# Altium schematic symbol library jlcpcb_2025_04_ferrites_extended_0402.schlib: 536 symbols (part 9 of 10)
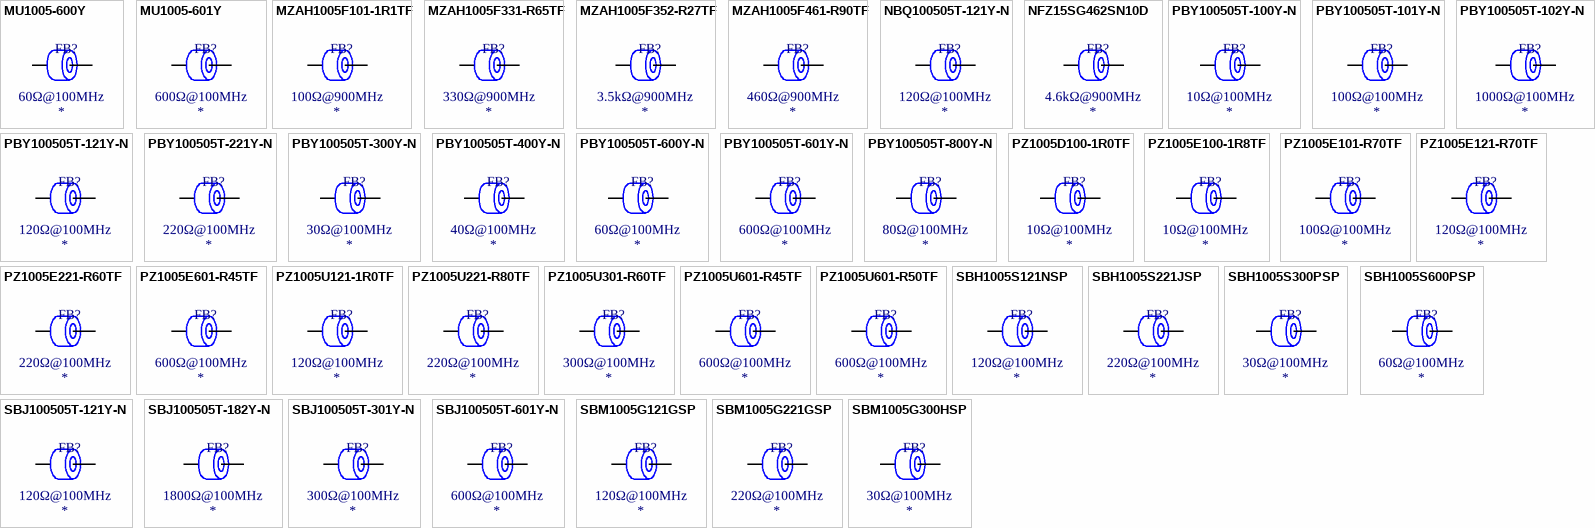
[diagram p21: symbols MU1005-600Y to SBM1005G300HSP]

## PBY100505T-101Y-N
designator FB?  Impedance @ Frequency: 100Ω@100MHz
Ferrite, 100Ω@100MHz, ±25%, 0.09Ω, 1200mA, SMD 0402; Manufacturer: Chilisin Elec; Manufacturer Part Number: PBY100505T-101Y-N; Package Size: 0402; JLCPCB Basic Part: No; JLCPCB Part Number: C142087; Supplier 1: LCSC; Category: Ferrite Beads; Supplier Part Number 1: C142087; Tolerance: ±25%; Rated Current: 1200mA; DC Resistance: 0.09Ω; RoHS: Yes; ComponentLink1Description: Datasheet; ComponentLink1URL: https://wmsc.lcsc.com/wmsc/upload/file/pdf/v2/lcsc/2304140030_Chilisin-Elec-PBY100505T-101Y-N_C142087.pdf; ComponentLink2Description: JLCPCB Part URL; ComponentLink2URL: https://jlcpcb.com/partdetail/C142087; ComponentLink3Description: LCSC Part URL; ComponentLink3URL: https://lcsc.com/product-detail/Ferrite-Beads_Chilisin-Elec-Chilisin-Elec-PBY100505T-101Y-N_C142087.html
footprint FB-0402 (0402 (1005M) Ferrite)
pins: 1, 2

## PBY100505T-102Y-N
designator FB?  Impedance @ Frequency: 1000Ω@100MHz
Ferrite, 1000Ω@100MHz, ±25%, 0.49Ω, 500mA, SMD 0402; Manufacturer: Chilisin Elec; Manufacturer Part Number: PBY100505T-102Y-N; Package Size: 0402; JLCPCB Basic Part: No; JLCPCB Part Number: C142086; Supplier 1: LCSC; Category: Ferrite Beads; Supplier Part Number 1: C142086; Tolerance: ±25%; Rated Current: 500mA; DC Resistance: 0.49Ω; RoHS: Yes; ComponentLink1Description: Datasheet; ComponentLink1URL: https://wmsc.lcsc.com/wmsc/upload/file/pdf/v2/lcsc/2304140030_Chilisin-Elec-PBY100505T-102Y-N_C142086.pdf; ComponentLink2Description: JLCPCB Part URL; ComponentLink2URL: https://jlcpcb.com/partdetail/C142086; ComponentLink3Description: LCSC Part URL; ComponentLink3URL: https://lcsc.com/product-detail/Ferrite-Beads_Chilisin-Elec-Chilisin-Elec-PBY100505T-102Y-N_C142086.html
footprint FB-0402 (0402 (1005M) Ferrite)
pins: 1, 2

## PBY100505T-121Y-N
designator FB?  Impedance @ Frequency: 120Ω@100MHz
Ferrite, 120Ω@100MHz, ±25%, 0.09Ω, 1400mA, SMD 0402; Manufacturer: Chilisin Elec; Manufacturer Part Number: PBY100505T-121Y-N; Package Size: 0402; JLCPCB Basic Part: No; JLCPCB Part Number: C108297; Supplier 1: LCSC; Category: Ferrite Beads; Supplier Part Number 1: C108297; Tolerance: ±25%; Rated Current: 1400mA; DC Resistance: 0.09Ω; RoHS: Yes; ComponentLink1Description: Datasheet; ComponentLink1URL: https://wmsc.lcsc.com/wmsc/upload/file/pdf/v2/lcsc/2304140030_Chilisin-Elec-PBY100505T-121Y-N_C108297.pdf; ComponentLink2Description: JLCPCB Part URL; ComponentLink2URL: https://jlcpcb.com/partdetail/C108297; ComponentLink3Description: LCSC Part URL; ComponentLink3URL: https://lcsc.com/product-detail/Ferrite-Beads_Chilisin-Elec-Chilisin-Elec-PBY100505T-121Y-N_C108297.html
footprint FB-0402 (0402 (1005M) Ferrite)
pins: 1, 2

## PBY100505T-221Y-N
designator FB?  Impedance @ Frequency: 220Ω@100MHz
Ferrite, 220Ω@100MHz, ±25%, 0.18Ω, 1100mA, SMD 0402; Manufacturer: Chilisin Elec; Manufacturer Part Number: PBY100505T-221Y-N; Package Size: 0402; JLCPCB Basic Part: No; JLCPCB Part Number: C142085; Supplier 1: LCSC; Category: Ferrite Beads; Supplier Part Number 1: C142085; Tolerance: ±25%; Rated Current: 1100mA; DC Resistance: 0.18Ω; RoHS: Yes; ComponentLink1Description: Datasheet; ComponentLink1URL: https://wmsc.lcsc.com/wmsc/upload/file/pdf/v2/lcsc/2304140030_Chilisin-Elec-PBY100505T-221Y-N_C142085.pdf; ComponentLink2Description: JLCPCB Part URL; ComponentLink2URL: https://jlcpcb.com/partdetail/C142085; ComponentLink3Description: LCSC Part URL; ComponentLink3URL: https://lcsc.com/product-detail/Ferrite-Beads_Chilisin-Elec-Chilisin-Elec-PBY100505T-221Y-N_C142085.html
footprint FB-0402 (0402 (1005M) Ferrite)
pins: 1, 2

## PBY100505T-300Y-N
designator FB?  Impedance @ Frequency: 30Ω@100MHz
Ferrite, 30Ω@100MHz, ±25%, 0.05Ω, 1700mA, SMD 0402; Manufacturer: Chilisin Elec; Manufacturer Part Number: PBY100505T-300Y-N; Package Size: 0402; JLCPCB Basic Part: No; JLCPCB Part Number: C142084; Supplier 1: LCSC; Category: Ferrite Beads; Supplier Part Number 1: C142084; Tolerance: ±25%; Rated Current: 1700mA; DC Resistance: 0.05Ω; RoHS: Yes; ComponentLink1Description: Datasheet; ComponentLink1URL: https://wmsc.lcsc.com/wmsc/upload/file/pdf/v2/lcsc/2304140030_Chilisin-Elec-PBY100505T-300Y-N_C142084.pdf; ComponentLink2Description: JLCPCB Part URL; ComponentLink2URL: https://jlcpcb.com/partdetail/C142084; ComponentLink3Description: LCSC Part URL; ComponentLink3URL: https://lcsc.com/product-detail/Ferrite-Beads_Chilisin-Elec-Chilisin-Elec-PBY100505T-300Y-N_C142084.html
footprint FB-0402 (0402 (1005M) Ferrite)
pins: 1, 2

## PBY100505T-400Y-N
designator FB?  Impedance @ Frequency: 40Ω@100MHz
Ferrite, 40Ω@100MHz, ±25%, 0.075Ω, 1500mA, SMD 0402; Manufacturer: Chilisin Elec; Manufacturer Part Number: PBY100505T-400Y-N; Package Size: 0402; JLCPCB Basic Part: No; JLCPCB Part Number: C365831; Supplier 1: LCSC; Category: Ferrite Beads; Supplier Part Number 1: C365831; Tolerance: ±25%; Rated Current: 1500mA; DC Resistance: 0.075Ω; RoHS: Yes; ComponentLink1Description: Datasheet; ComponentLink1URL: https://wmsc.lcsc.com/wmsc/upload/file/pdf/v2/lcsc/2304140030_Chilisin-Elec-PBY100505T-400Y-N_C365831.pdf; ComponentLink2Description: JLCPCB Part URL; ComponentLink2URL: https://jlcpcb.com/partdetail/C365831; ComponentLink3Description: LCSC Part URL; ComponentLink3URL: https://lcsc.com/product-detail/Ferrite-Beads_Chilisin-Elec-Chilisin-Elec-PBY100505T-400Y-N_C365831.html
footprint FB-0402 (0402 (1005M) Ferrite)
pins: 1, 2

## PBY100505T-600Y-N
designator FB?  Impedance @ Frequency: 60Ω@100MHz
Ferrite, 60Ω@100MHz, ±25%, 0.075Ω, 1500mA, SMD 0402; Manufacturer: Chilisin Elec; Manufacturer Part Number: PBY100505T-600Y-N; Package Size: 0402; JLCPCB Basic Part: No; JLCPCB Part Number: C142083; Supplier 1: LCSC; Category: Ferrite Beads; Supplier Part Number 1: C142083; Tolerance: ±25%; Rated Current: 1500mA; DC Resistance: 0.075Ω; RoHS: Yes; ComponentLink1Description: Datasheet; ComponentLink1URL: https://wmsc.lcsc.com/wmsc/upload/file/pdf/v2/lcsc/2304140030_Chilisin-Elec-PBY100505T-600Y-N_C142083.pdf; ComponentLink2Description: JLCPCB Part URL; ComponentLink2URL: https://jlcpcb.com/partdetail/C142083; ComponentLink3Description: LCSC Part URL; ComponentLink3URL: https://lcsc.com/product-detail/Ferrite-Beads_Chilisin-Elec-Chilisin-Elec-PBY100505T-600Y-N_C142083.html
footprint FB-0402 (0402 (1005M) Ferrite)
pins: 1, 2

## PBY100505T-601Y-N
designator FB?  Impedance @ Frequency: 600Ω@100MHz
Ferrite, 600Ω@100MHz, ±25%, 0.34Ω, 700mA, SMD 0402; Manufacturer: Chilisin Elec; Manufacturer Part Number: PBY100505T-601Y-N; Package Size: 0402; JLCPCB Basic Part: No; JLCPCB Part Number: C142082; Supplier 1: LCSC; Category: Ferrite Beads; Supplier Part Number 1: C142082; Tolerance: ±25%; Rated Current: 700mA; DC Resistance: 0.34Ω; RoHS: Yes; ComponentLink1Description: Datasheet; ComponentLink1URL: https://wmsc.lcsc.com/wmsc/upload/file/pdf/v2/lcsc/2304140030_Chilisin-Elec-PBY100505T-601Y-N_C142082.pdf; ComponentLink2Description: JLCPCB Part URL; ComponentLink2URL: https://jlcpcb.com/partdetail/C142082; ComponentLink3Description: LCSC Part URL; ComponentLink3URL: https://lcsc.com/product-detail/Ferrite-Beads_Chilisin-Elec-Chilisin-Elec-PBY100505T-601Y-N_C142082.html
footprint FB-0402 (0402 (1005M) Ferrite)
pins: 1, 2

## PBY100505T-800Y-N
designator FB?  Impedance @ Frequency: 80Ω@100MHz
Ferrite, 80Ω@100MHz, ±25%, 0.09Ω, 1200mA, SMD 0402; Manufacturer: Chilisin Elec; Manufacturer Part Number: PBY100505T-800Y-N; Package Size: 0402; JLCPCB Basic Part: No; JLCPCB Part Number: C365825; Supplier 1: LCSC; Category: Ferrite Beads; Supplier Part Number 1: C365825; Tolerance: ±25%; Rated Current: 1200mA; DC Resistance: 0.09Ω; RoHS: Yes; ComponentLink1Description: Datasheet; ComponentLink1URL: https://wmsc.lcsc.com/wmsc/upload/file/pdf/v2/lcsc/2304140030_Chilisin-Elec-PBY100505T-800Y-N_C365825.pdf; ComponentLink2Description: JLCPCB Part URL; ComponentLink2URL: https://jlcpcb.com/partdetail/C365825; ComponentLink3Description: LCSC Part URL; ComponentLink3URL: https://lcsc.com/product-detail/Ferrite-Beads_Chilisin-Elec-Chilisin-Elec-PBY100505T-800Y-N_C365825.html
footprint FB-0402 (0402 (1005M) Ferrite)
pins: 1, 2

## PZ1005D100-1R0TF
designator FB?  Impedance @ Frequency: 10Ω@100MHz
Ferrite, 10Ω@100MHz, 0.05Ω, 1000mA, SMD 0402; Manufacturer: Sunlord; Manufacturer Part Number: PZ1005D100-1R0TF; Package Size: 0402; JLCPCB Basic Part: No; JLCPCB Part Number: C96719; Supplier 1: LCSC; Category: Ferrite Beads; Supplier Part Number 1: C96719; Rated Current: 1000mA; DC Resistance: 0.05Ω; RoHS: Yes; ComponentLink1Description: Datasheet; ComponentLink1URL: https://wmsc.lcsc.com/wmsc/upload/file/pdf/v2/lcsc/2310301641_Sunlord-PZ1005D100-1R0TF_C96719.pdf; ComponentLink2Description: JLCPCB Part URL; ComponentLink2URL: https://jlcpcb.com/partdetail/C96719; ComponentLink3Description: LCSC Part URL; ComponentLink3URL: https://lcsc.com/product-detail/Ferrite-Beads_Sunlord-Sunlord-PZ1005D100-1R0TF_C96719.html
pins: 1, 2

## PZ1005E100-1R8TF
designator FB?  Impedance @ Frequency: 10Ω@100MHz
Ferrite, 10Ω@100MHz, 0.02Ω, 1800mA, SMD 0402; Manufacturer: Sunlord; Manufacturer Part Number: PZ1005E100-1R8TF; Package Size: 0402; JLCPCB Basic Part: No; JLCPCB Part Number: C370054; Supplier 1: LCSC; Category: Ferrite Beads; Supplier Part Number 1: C370054; Rated Current: 1800mA; DC Resistance: 0.02Ω; RoHS: Yes; ComponentLink1Description: Datasheet; ComponentLink1URL: https://wmsc.lcsc.com/wmsc/upload/file/pdf/v2/lcsc/2310301641_Sunlord-PZ1005E100-1R8TF_C370054.pdf; ComponentLink2Description: JLCPCB Part URL; ComponentLink2URL: https://jlcpcb.com/partdetail/C370054; ComponentLink3Description: LCSC Part URL; ComponentLink3URL: https://lcsc.com/product-detail/Ferrite-Beads_Sunlord-Sunlord-PZ1005E100-1R8TF_C370054.html
pins: 1, 2

## PZ1005E101-R70TF
designator FB?  Impedance @ Frequency: 100Ω@100MHz
Ferrite, 100Ω@100MHz, 0.7A, SMD 0402; Manufacturer: Sunlord; Manufacturer Part Number: PZ1005E101-R70TF; Package Size: 0402; JLCPCB Basic Part: No; JLCPCB Part Number: C2988088; Supplier 1: LCSC; Category: Ferrite Beads; Supplier Part Number 1: C2988088; Rated Current: 0.7A; RoHS: Yes; ComponentLink1Description: Datasheet; ComponentLink1URL: https://wmsc.lcsc.com/wmsc/upload/file/pdf/v2/lcsc/2312261450_Sunlord-PZ1005E101-R70TF_C2988088.pdf; ComponentLink2Description: JLCPCB Part URL; ComponentLink2URL: https://jlcpcb.com/partdetail/C2988088; ComponentLink3Description: LCSC Part URL; ComponentLink3URL: https://lcsc.com/product-detail/Ferrite-Beads_Sunlord-Sunlord-PZ1005E101-R70TF_C2988088.html
pins: 1, 2

## PZ1005E121-R70TF
designator FB?  Impedance @ Frequency: 120Ω@100MHz
Ferrite, 120Ω@100MHz, ±25%, 0.13Ω, 700mA, SMD 0402; Manufacturer: Sunlord; Manufacturer Part Number: PZ1005E121-R70TF; Package Size: 0402; JLCPCB Basic Part: No; JLCPCB Part Number: C96720; Supplier 1: LCSC; Category: Ferrite Beads; Supplier Part Number 1: C96720; Tolerance: ±25%; Rated Current: 700mA; DC Resistance: 0.13Ω; RoHS: Yes; ComponentLink1Description: Datasheet; ComponentLink1URL: https://wmsc.lcsc.com/wmsc/upload/file/pdf/v2/lcsc/2310301641_Sunlord-PZ1005E121-R70TF_C96720.pdf; ComponentLink2Description: JLCPCB Part URL; ComponentLink2URL: https://jlcpcb.com/partdetail/C96720; ComponentLink3Description: LCSC Part URL; ComponentLink3URL: https://lcsc.com/product-detail/Ferrite-Beads_Sunlord-Sunlord-PZ1005E121-R70TF_C96720.html
footprint FB-0402 (0402 (1005M) Ferrite)
pins: 1, 2

## PZ1005E221-R60TF
designator FB?  Impedance @ Frequency: 220Ω@100MHz
Ferrite, 220Ω@100MHz, ±25%, 0.18Ω, 600mA, SMD 0402; Manufacturer: Sunlord; Manufacturer Part Number: PZ1005E221-R60TF; Package Size: 0402; JLCPCB Basic Part: No; JLCPCB Part Number: C96721; Supplier 1: LCSC; Category: Ferrite Beads; Supplier Part Number 1: C96721; Tolerance: ±25%; Rated Current: 600mA; DC Resistance: 0.18Ω; RoHS: Yes; ComponentLink1Description: Datasheet; ComponentLink1URL: https://wmsc.lcsc.com/wmsc/upload/file/pdf/v2/lcsc/2310301641_Sunlord-PZ1005E221-R60TF_C96721.pdf; ComponentLink2Description: JLCPCB Part URL; ComponentLink2URL: https://jlcpcb.com/partdetail/C96721; ComponentLink3Description: LCSC Part URL; ComponentLink3URL: https://lcsc.com/product-detail/Ferrite-Beads_Sunlord-Sunlord-PZ1005E221-R60TF_C96721.html
footprint FB-0402 (0402 (1005M) Ferrite)
pins: 1, 2

## PZ1005E601-R45TF
designator FB?  Impedance @ Frequency: 600Ω@100MHz
Ferrite, 600Ω@100MHz, ±25%, 0.34Ω, 450mA, SMD 0402; Manufacturer: Sunlord; Manufacturer Part Number: PZ1005E601-R45TF; Package Size: 0402; JLCPCB Basic Part: No; JLCPCB Part Number: C96722; Supplier 1: LCSC; Category: Ferrite Beads; Supplier Part Number 1: C96722; Tolerance: ±25%; Rated Current: 450mA; DC Resistance: 0.34Ω; RoHS: Yes; ComponentLink1Description: Datasheet; ComponentLink1URL: https://wmsc.lcsc.com/wmsc/upload/file/pdf/v2/lcsc/2310301641_Sunlord-PZ1005E601-R45TF_C96722.pdf; ComponentLink2Description: JLCPCB Part URL; ComponentLink2URL: https://jlcpcb.com/partdetail/C96722; ComponentLink3Description: LCSC Part URL; ComponentLink3URL: https://lcsc.com/product-detail/Ferrite-Beads_Sunlord-Sunlord-PZ1005E601-R45TF_C96722.html
footprint FB-0402 (0402 (1005M) Ferrite)
pins: 1, 2

## PZ1005U121-1R0TF
designator FB?  Impedance @ Frequency: 120Ω@100MHz
Ferrite, 120Ω@100MHz, ±25%, 0.12Ω, 1000mA, SMD 0402; Manufacturer: Sunlord; Manufacturer Part Number: PZ1005U121-1R0TF; Package Size: 0402; JLCPCB Basic Part: No; JLCPCB Part Number: C96723; Supplier 1: LCSC; Category: Ferrite Beads; Supplier Part Number 1: C96723; Tolerance: ±25%; Rated Current: 1000mA; DC Resistance: 0.12Ω; RoHS: Yes; ComponentLink1Description: Datasheet; ComponentLink1URL: https://wmsc.lcsc.com/wmsc/upload/file/pdf/v2/lcsc/2310301641_Sunlord-PZ1005U121-1R0TF_C96723.pdf; ComponentLink2Description: JLCPCB Part URL; ComponentLink2URL: https://jlcpcb.com/partdetail/C96723; ComponentLink3Description: LCSC Part URL; ComponentLink3URL: https://lcsc.com/product-detail/Ferrite-Beads_Sunlord-Sunlord-PZ1005U121-1R0TF_C96723.html
footprint FB-0402 (0402 (1005M) Ferrite)
pins: 1, 2

## PZ1005U221-R80TF
designator FB?  Impedance @ Frequency: 220Ω@100MHz
Ferrite, 220Ω@100MHz, ±25%, 0.18Ω, 800mA, SMD 0402; Manufacturer: Sunlord; Manufacturer Part Number: PZ1005U221-R80TF; Package Size: 0402; JLCPCB Basic Part: No; JLCPCB Part Number: C96724; Supplier 1: LCSC; Category: Ferrite Beads; Supplier Part Number 1: C96724; Tolerance: ±25%; Rated Current: 800mA; DC Resistance: 0.18Ω; RoHS: Yes; ComponentLink1Description: Datasheet; ComponentLink1URL: https://wmsc.lcsc.com/wmsc/upload/file/pdf/v2/lcsc/2310301641_Sunlord-PZ1005U221-R80TF_C96724.pdf; ComponentLink2Description: JLCPCB Part URL; ComponentLink2URL: https://jlcpcb.com/partdetail/C96724; ComponentLink3Description: LCSC Part URL; ComponentLink3URL: https://lcsc.com/product-detail/Ferrite-Beads_Sunlord-Sunlord-PZ1005U221-R80TF_C96724.html
footprint FB-0402 (0402 (1005M) Ferrite)
pins: 1, 2

## PZ1005U301-R60TF
designator FB?  Impedance @ Frequency: 300Ω@100MHz
Ferrite, 300Ω@100MHz, ±25%, 0.6A, SMD 0402; Manufacturer: Sunlord; Manufacturer Part Number: PZ1005U301-R60TF; Package Size: 0402; JLCPCB Basic Part: No; JLCPCB Part Number: C316422; Supplier 1: LCSC; Category: Ferrite Beads; Supplier Part Number 1: C316422; Tolerance: ±25%; Rated Current: 0.6A; RoHS: Yes; ComponentLink1Description: Datasheet; ComponentLink1URL: https://wmsc.lcsc.com/wmsc/upload/file/pdf/v2/lcsc/2310301641_Sunlord-PZ1005U301-R60TF_C316422.pdf; ComponentLink2Description: JLCPCB Part URL; ComponentLink2URL: https://jlcpcb.com/partdetail/C316422; ComponentLink3Description: LCSC Part URL; ComponentLink3URL: https://lcsc.com/product-detail/Ferrite-Beads_Sunlord-Sunlord-PZ1005U301-R60TF_C316422.html
pins: 1, 2

## PZ1005U601-R45TF
designator FB?  Impedance @ Frequency: 600Ω@100MHz
Ferrite, 600Ω@100MHz, ±25%, 0.34Ω, 450mA, SMD 0402; Manufacturer: Sunlord; Manufacturer Part Number: PZ1005U601-R45TF; Package Size: 0402; JLCPCB Basic Part: No; JLCPCB Part Number: C96725; Supplier 1: LCSC; Category: Ferrite Beads; Supplier Part Number 1: C96725; Tolerance: ±25%; Rated Current: 450mA; DC Resistance: 0.34Ω; RoHS: Yes; ComponentLink1Description: Datasheet; ComponentLink1URL: https://wmsc.lcsc.com/wmsc/upload/file/pdf/v2/lcsc/2310301641_Sunlord-PZ1005U601-R45TF_C96725.pdf; ComponentLink2Description: JLCPCB Part URL; ComponentLink2URL: https://jlcpcb.com/partdetail/C96725; ComponentLink3Description: LCSC Part URL; ComponentLink3URL: https://lcsc.com/product-detail/Ferrite-Beads_Sunlord-Sunlord-PZ1005U601-R45TF_C96725.html
footprint FB-0402 (0402 (1005M) Ferrite)
pins: 1, 2

## PZ1005U601-R50TF
designator FB?  Impedance @ Frequency: 600Ω@100MHz
Ferrite, 600Ω@100MHz, ±25%, 0.5A, SMD 0402; Manufacturer: Sunlord; Manufacturer Part Number: PZ1005U601-R50TF; Package Size: 0402; JLCPCB Basic Part: No; JLCPCB Part Number: C279849; Supplier 1: LCSC; Category: Ferrite Beads; Supplier Part Number 1: C279849; Tolerance: ±25%; Rated Current: 0.5A; RoHS: Yes; ComponentLink1Description: Datasheet; ComponentLink1URL: https://wmsc.lcsc.com/wmsc/upload/file/pdf/v2/lcsc/2310301641_Sunlord-PZ1005U601-R50TF_C279849.pdf; ComponentLink2Description: JLCPCB Part URL; ComponentLink2URL: https://jlcpcb.com/partdetail/C279849; ComponentLink3Description: LCSC Part URL; ComponentLink3URL: https://lcsc.com/product-detail/Ferrite-Beads_Sunlord-Sunlord-PZ1005U601-R50TF_C279849.html
pins: 1, 2

## SBH1005S121NSP
designator FB?  Impedance @ Frequency: 120Ω@100MHz
Ferrite, 120Ω@100MHz, ±25%, 95mΩ, 2A, SMD 0402; Manufacturer: Sunltech Tech; Manufacturer Part Number: SBH1005S121NSP; Package Size: 0402; JLCPCB Basic Part: No; JLCPCB Part Number: C216140; Supplier 1: LCSC; Category: Ferrite Beads; Supplier Part Number 1: C216140; Tolerance: ±25%; Rated Current: 2A; DC Resistance: 95mΩ; RoHS: Yes; ComponentLink1Description: Datasheet; ComponentLink1URL: https://wmsc.lcsc.com/wmsc/upload/file/pdf/v2/lcsc/2304140030_Sunltech-Tech-SBH1005S121NSP_C216140.pdf; ComponentLink2Description: JLCPCB Part URL; ComponentLink2URL: https://jlcpcb.com/partdetail/C216140; ComponentLink3Description: LCSC Part URL; ComponentLink3URL: https://lcsc.com/product-detail/Ferrite-Beads_Sunltech-Tech-Sunltech-Tech-SBH1005S121NSP_C216140.html
footprint FB-0402 (0402 (1005M) Ferrite)
pins: 1, 2

## SBH1005S221JSP
designator FB?  Impedance @ Frequency: 220Ω@100MHz
Ferrite, 220Ω@100MHz, ±25%, 700mΩ, 800mA, SMD 0402; Manufacturer: Sunltech Tech; Manufacturer Part Number: SBH1005S221JSP; Package Size: 0402; JLCPCB Basic Part: No; JLCPCB Part Number: C216141; Supplier 1: LCSC; Category: Ferrite Beads; Supplier Part Number 1: C216141; Tolerance: ±25%; Rated Current: 800mA; DC Resistance: 700mΩ; RoHS: Yes; ComponentLink1Description: Datasheet; ComponentLink1URL: https://wmsc.lcsc.com/wmsc/upload/file/pdf/v2/lcsc/1809041633_Sunltech-Tech-SBH1005S221JSP_C216141.pdf; ComponentLink2Description: JLCPCB Part URL; ComponentLink2URL: https://jlcpcb.com/partdetail/C216141; ComponentLink3Description: LCSC Part URL; ComponentLink3URL: https://lcsc.com/product-detail/Ferrite-Beads_Sunltech-Tech-Sunltech-Tech-SBH1005S221JSP_C216141.html
footprint FB-0402 (0402 (1005M) Ferrite)
pins: 1, 2

## SBH1005S300PSP
designator FB?  Impedance @ Frequency: 30Ω@100MHz
Ferrite, 30Ω@100MHz, ±25%, 60mΩ, 2.5A, SMD 0402; Manufacturer: Sunltech Tech; Manufacturer Part Number: SBH1005S300PSP; Package Size: 0402; JLCPCB Basic Part: No; JLCPCB Part Number: C216138; Supplier 1: LCSC; Category: Ferrite Beads; Supplier Part Number 1: C216138; Tolerance: ±25%; Rated Current: 2.5A; DC Resistance: 60mΩ; RoHS: Yes; ComponentLink1Description: Datasheet; ComponentLink1URL: https://wmsc.lcsc.com/wmsc/upload/file/pdf/v2/lcsc/2304140030_Sunltech-Tech-SBH1005S300PSP_C216138.pdf; ComponentLink2Description: JLCPCB Part URL; ComponentLink2URL: https://jlcpcb.com/partdetail/C216138; ComponentLink3Description: LCSC Part URL; ComponentLink3URL: https://lcsc.com/product-detail/Ferrite-Beads_Sunltech-Tech-Sunltech-Tech-SBH1005S300PSP_C216138.html
footprint FB-0402 (0402 (1005M) Ferrite)
pins: 1, 2

## SBH1005S600PSP
designator FB?  Impedance @ Frequency: 60Ω@100MHz
Ferrite, 60Ω@100MHz, ±25%, 70mΩ, 2.5A, SMD 0402; Manufacturer: Sunltech Tech; Manufacturer Part Number: SBH1005S600PSP; Package Size: 0402; JLCPCB Basic Part: No; JLCPCB Part Number: C216139; Supplier 1: LCSC; Category: Ferrite Beads; Supplier Part Number 1: C216139; Tolerance: ±25%; Rated Current: 2.5A; DC Resistance: 70mΩ; RoHS: Yes; ComponentLink1Description: Datasheet; ComponentLink1URL: https://wmsc.lcsc.com/wmsc/upload/file/pdf/v2/lcsc/2304140030_Sunltech-Tech-SBH1005S600PSP_C216139.pdf; ComponentLink2Description: JLCPCB Part URL; ComponentLink2URL: https://jlcpcb.com/partdetail/C216139; ComponentLink3Description: LCSC Part URL; ComponentLink3URL: https://lcsc.com/product-detail/Ferrite-Beads_Sunltech-Tech-Sunltech-Tech-SBH1005S600PSP_C216139.html
footprint FB-0402 (0402 (1005M) Ferrite)
pins: 1, 2

## SBJ100505T-121Y-N
designator FB?  Impedance @ Frequency: 120Ω@100MHz
Ferrite, 120Ω@100MHz, 250mΩ, 500mA, SMD 0402; Manufacturer: Chilisin Elec; Manufacturer Part Number: SBJ100505T-121Y-N; Package Size: 0402; JLCPCB Basic Part: No; JLCPCB Part Number: C3033272; Supplier 1: LCSC; Category: Ferrite Beads; Supplier Part Number 1: C3033272; Rated Current: 500mA; DC Resistance: 250mΩ; RoHS: Yes; ComponentLink1Description: Datasheet; ComponentLink1URL: https://wmsc.lcsc.com/wmsc/upload/file/pdf/v2/lcsc/2209140930_Chilisin-Elec-SBJ100505T-121Y-N_C3033272.pdf; ComponentLink2Description: JLCPCB Part URL; ComponentLink2URL: https://jlcpcb.com/partdetail/C3033272; ComponentLink3Description: LCSC Part URL; ComponentLink3URL: https://lcsc.com/product-detail/Ferrite-Beads_Chilisin-Elec-Chilisin-Elec-SBJ100505T-121Y-N_C3033272.html
pins: 1, 2

## SBJ100505T-182Y-N
designator FB?  Impedance @ Frequency: 1800Ω@100MHz
Ferrite, 1800Ω@100MHz, ±25%, 1.4Ω, 100mA, SMD 0402; Manufacturer: Chilisin Elec; Manufacturer Part Number: SBJ100505T-182Y-N; Package Size: 0402; JLCPCB Basic Part: No; JLCPCB Part Number: C280681; Supplier 1: LCSC; Category: Ferrite Beads; Supplier Part Number 1: C280681; Tolerance: ±25%; Rated Current: 100mA; DC Resistance: 1.4Ω; RoHS: Yes; ComponentLink1Description: Datasheet; ComponentLink1URL: https://wmsc.lcsc.com/wmsc/upload/file/pdf/v2/lcsc/1912111437_Chilisin-Elec-SBJ100505T-182Y-N_C280681.pdf; ComponentLink2Description: JLCPCB Part URL; ComponentLink2URL: https://jlcpcb.com/partdetail/C280681; ComponentLink3Description: LCSC Part URL; ComponentLink3URL: https://lcsc.com/product-detail/Ferrite-Beads_Chilisin-Elec-Chilisin-Elec-SBJ100505T-182Y-N_C280681.html
footprint FB-0402 (0402 (1005M) Ferrite)
pins: 1, 2

## SBJ100505T-301Y-N
designator FB?  Impedance @ Frequency: 300Ω@100MHz
Ferrite, 300Ω@100MHz, ±25%, 0.5Ω, 300mA, SMD 0402; Manufacturer: Chilisin Elec; Manufacturer Part Number: SBJ100505T-301Y-N; Package Size: 0402; JLCPCB Basic Part: No; JLCPCB Part Number: C285657; Supplier 1: LCSC; Category: Ferrite Beads; Supplier Part Number 1: C285657; Tolerance: ±25%; Rated Current: 300mA; DC Resistance: 0.5Ω; RoHS: Yes; ComponentLink1Description: Datasheet; ComponentLink1URL: https://wmsc.lcsc.com/wmsc/upload/file/pdf/v2/lcsc/2304140030_Chilisin-Elec-SBJ100505T-301Y-N_C285657.pdf; ComponentLink2Description: JLCPCB Part URL; ComponentLink2URL: https://jlcpcb.com/partdetail/C285657; ComponentLink3Description: LCSC Part URL; ComponentLink3URL: https://lcsc.com/product-detail/Ferrite-Beads_Chilisin-Elec-Chilisin-Elec-SBJ100505T-301Y-N_C285657.html
footprint FB-0402 (0402 (1005M) Ferrite)
pins: 1, 2

## SBJ100505T-601Y-N
designator FB?  Impedance @ Frequency: 600Ω@100MHz
Ferrite, 600Ω@100MHz, ±25%, 0.6Ω, 300mA, SMD 0402; Manufacturer: Chilisin Elec; Manufacturer Part Number: SBJ100505T-601Y-N; Package Size: 0402; JLCPCB Basic Part: No; JLCPCB Part Number: C142038; Supplier 1: LCSC; Category: Ferrite Beads; Supplier Part Number 1: C142038; Tolerance: ±25%; Rated Current: 300mA; DC Resistance: 0.6Ω; RoHS: Yes; ComponentLink1Description: Datasheet; ComponentLink1URL: https://wmsc.lcsc.com/wmsc/upload/file/pdf/v2/lcsc/2304140030_Chilisin-Elec-SBJ100505T-601Y-N_C142038.pdf; ComponentLink2Description: JLCPCB Part URL; ComponentLink2URL: https://jlcpcb.com/partdetail/C142038; ComponentLink3Description: LCSC Part URL; ComponentLink3URL: https://lcsc.com/product-detail/Ferrite-Beads_Chilisin-Elec-Chilisin-Elec-SBJ100505T-601Y-N_C142038.html
footprint FB-0402 (0402 (1005M) Ferrite)
pins: 1, 2

## SBM1005G121GSP
designator FB?  Impedance @ Frequency: 120Ω@100MHz
Ferrite, 120Ω@100MHz, ±25%, 800mΩ, 200mA, SMD 0402; Manufacturer: Sunltech Tech; Manufacturer Part Number: SBM1005G121GSP; Package Size: 0402; JLCPCB Basic Part: No; JLCPCB Part Number: C216125; Supplier 1: LCSC; Category: Ferrite Beads; Supplier Part Number 1: C216125; Tolerance: ±25%; Rated Current: 200mA; DC Resistance: 800mΩ; RoHS: Yes; ComponentLink1Description: Datasheet; ComponentLink2Description: JLCPCB Part URL; ComponentLink2URL: https://jlcpcb.com/partdetail/C216125; ComponentLink3Description: LCSC Part URL; ComponentLink3URL: https://lcsc.com/product-detail/Ferrite-Beads_Sunltech-Tech-Sunltech-Tech-SBM1005G121GSP_C216125.html
footprint FB-0402 (0402 (1005M) Ferrite)
pins: 1, 2

## SBM1005G221GSP
designator FB?  Impedance @ Frequency: 220Ω@100MHz
Ferrite, 220Ω@100MHz, ±25%, 700mΩ, 500mA, SMD 0402; Manufacturer: Sunltech Tech; Manufacturer Part Number: SBM1005G221GSP; Package Size: 0402; JLCPCB Basic Part: No; JLCPCB Part Number: C216126; Supplier 1: LCSC; Category: Ferrite Beads; Supplier Part Number 1: C216126; Tolerance: ±25%; Rated Current: 500mA; DC Resistance: 700mΩ; RoHS: Yes; ComponentLink1Description: Datasheet; ComponentLink1URL: https://wmsc.lcsc.com/wmsc/upload/file/pdf/v2/lcsc/2304140030_Sunltech-Tech-SBM1005G221GSP_C216126.pdf; ComponentLink2Description: JLCPCB Part URL; ComponentLink2URL: https://jlcpcb.com/partdetail/C216126; ComponentLink3Description: LCSC Part URL; ComponentLink3URL: https://lcsc.com/product-detail/Ferrite-Beads_Sunltech-Tech-Sunltech-Tech-SBM1005G221GSP_C216126.html
footprint FB-0402 (0402 (1005M) Ferrite)
pins: 1, 2

## SBM1005G300HSP
designator FB?  Impedance @ Frequency: 30Ω@100MHz
Ferrite, 30Ω@100MHz, ±25%, 150mΩ, 600mA, SMD 0402; Manufacturer: Sunltech Tech; Manufacturer Part Number: SBM1005G300HSP; Package Size: 0402; JLCPCB Basic Part: No; JLCPCB Part Number: C216123; Supplier 1: LCSC; Category: Ferrite Beads; Supplier Part Number 1: C216123; Tolerance: ±25%; Rated Current: 600mA; DC Resistance: 150mΩ; RoHS: Yes; ComponentLink1Description: Datasheet; ComponentLink1URL: https://wmsc.lcsc.com/wmsc/upload/file/pdf/v2/lcsc/2304140030_Sunltech-Tech-SBM1005G300HSP_C216123.pdf; ComponentLink2Description: JLCPCB Part URL; ComponentLink2URL: https://jlcpcb.com/partdetail/C216123; ComponentLink3Description: LCSC Part URL; ComponentLink3URL: https://lcsc.com/product-detail/Ferrite-Beads_Sunltech-Tech-Sunltech-Tech-SBM1005G300HSP_C216123.html
footprint FB-0402 (0402 (1005M) Ferrite)
pins: 1, 2

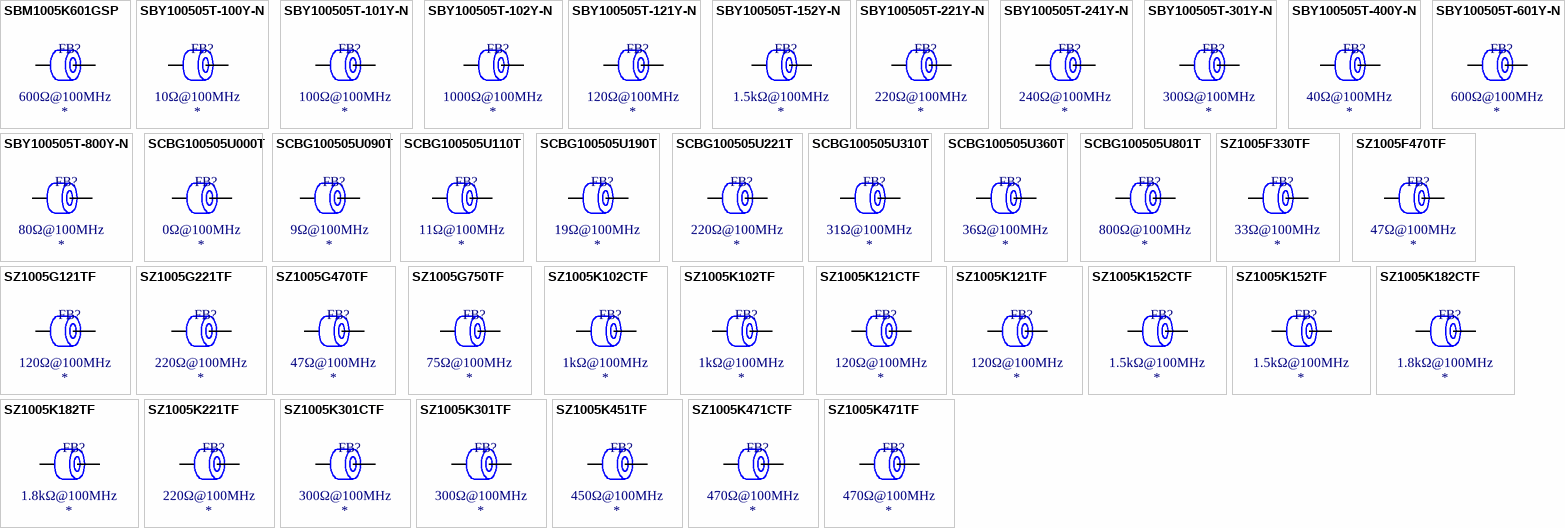
[diagram p12: symbols SBM1005K601GSP to SZ1005K471TF]

## SBM1005K601GSP
designator FB?  Impedance @ Frequency: 600Ω@100MHz
Ferrite, 600Ω@100MHz, ±25%, 1Ω, 500mA, SMD 0402; Manufacturer: Sunltech Tech; Manufacturer Part Number: SBM1005K601GSP; Package Size: 0402; JLCPCB Basic Part: No; JLCPCB Part Number: C216127; Supplier 1: LCSC; Category: Ferrite Beads; Supplier Part Number 1: C216127; Tolerance: ±25%; Rated Current: 500mA; DC Resistance: 1Ω; RoHS: Yes; ComponentLink1Description: Datasheet; ComponentLink1URL: https://wmsc.lcsc.com/wmsc/upload/file/pdf/v2/lcsc/2304140030_Sunltech-Tech-SBM1005K601GSP_C216127.pdf; ComponentLink2Description: JLCPCB Part URL; ComponentLink2URL: https://jlcpcb.com/partdetail/C216127; ComponentLink3Description: LCSC Part URL; ComponentLink3URL: https://lcsc.com/product-detail/Ferrite-Beads_Sunltech-Tech-Sunltech-Tech-SBM1005K601GSP_C216127.html
footprint FB-0402 (0402 (1005M) Ferrite)
pins: 1, 2

## SBY100505T-100Y-N
designator FB?  Impedance @ Frequency: 10Ω@100MHz
Ferrite, 10Ω@100MHz, ±25%, 0.05Ω, 500mA, SMD 0402; Manufacturer: Chilisin Elec; Manufacturer Part Number: SBY100505T-100Y-N; Package Size: 0402; JLCPCB Basic Part: No; JLCPCB Part Number: C285645; Supplier 1: LCSC; Category: Ferrite Beads; Supplier Part Number 1: C285645; Tolerance: ±25%; Rated Current: 500mA; DC Resistance: 0.05Ω; RoHS: Yes; ComponentLink1Description: Datasheet; ComponentLink1URL: https://wmsc.lcsc.com/wmsc/upload/file/pdf/v2/lcsc/2304140030_Chilisin-Elec-SBY100505T-100Y-N_C285645.pdf; ComponentLink2Description: JLCPCB Part URL; ComponentLink2URL: https://jlcpcb.com/partdetail/C285645; ComponentLink3Description: LCSC Part URL; ComponentLink3URL: https://lcsc.com/product-detail/Ferrite-Beads_Chilisin-Elec-Chilisin-Elec-SBY100505T-100Y-N_C285645.html
footprint FB-0402 (0402 (1005M) Ferrite)
pins: 1, 2

## SBY100505T-101Y-N
designator FB?  Impedance @ Frequency: 100Ω@100MHz
Ferrite, 100Ω@100MHz, ±25%, 0.25Ω, 500mA, SMD 0402; Manufacturer: Chilisin Elec; Manufacturer Part Number: SBY100505T-101Y-N; Package Size: 0402; JLCPCB Basic Part: No; JLCPCB Part Number: C280601; Supplier 1: LCSC; Category: Ferrite Beads; Supplier Part Number 1: C280601; Tolerance: ±25%; Rated Current: 500mA; DC Resistance: 0.25Ω; RoHS: Yes; ComponentLink1Description: Datasheet; ComponentLink1URL: https://wmsc.lcsc.com/wmsc/upload/file/pdf/v2/lcsc/2304140030_Chilisin-Elec-SBY100505T-101Y-N_C280601.pdf; ComponentLink2Description: JLCPCB Part URL; ComponentLink2URL: https://jlcpcb.com/partdetail/C280601; ComponentLink3Description: LCSC Part URL; ComponentLink3URL: https://lcsc.com/product-detail/Ferrite-Beads_Chilisin-Elec-Chilisin-Elec-SBY100505T-101Y-N_C280601.html
footprint FB-0402 (0402 (1005M) Ferrite)
pins: 1, 2

## SBY100505T-102Y-N
designator FB?  Impedance @ Frequency: 1000Ω@100MHz
Ferrite, 1000Ω@100MHz, ±25%, 0.65Ω, 300mA, SMD 0402; Manufacturer: Chilisin Elec; Manufacturer Part Number: SBY100505T-102Y-N; Package Size: 0402; JLCPCB Basic Part: No; JLCPCB Part Number: C280602; Supplier 1: LCSC; Category: Ferrite Beads; Supplier Part Number 1: C280602; Tolerance: ±25%; Rated Current: 300mA; DC Resistance: 0.65Ω; RoHS: Yes; ComponentLink1Description: Datasheet; ComponentLink1URL: https://wmsc.lcsc.com/wmsc/upload/file/pdf/v2/lcsc/1811141623_Chilisin-Elec-SBY100505T-102Y-N_C280602.pdf; ComponentLink2Description: JLCPCB Part URL; ComponentLink2URL: https://jlcpcb.com/partdetail/C280602; ComponentLink3Description: LCSC Part URL; ComponentLink3URL: https://lcsc.com/product-detail/Ferrite-Beads_Chilisin-Elec-Chilisin-Elec-SBY100505T-102Y-N_C280602.html
footprint FB-0402 (0402 (1005M) Ferrite)
pins: 1, 2

## SBY100505T-121Y-N
designator FB?  Impedance @ Frequency: 120Ω@100MHz
Ferrite, 120Ω@100MHz, ±25%, 0.25Ω, 500mA, SMD 0402; Manufacturer: Chilisin Elec; Manufacturer Part Number: SBY100505T-121Y-N; Package Size: 0402; JLCPCB Basic Part: No; JLCPCB Part Number: C142034; Supplier 1: LCSC; Category: Ferrite Beads; Supplier Part Number 1: C142034; Tolerance: ±25%; Rated Current: 500mA; DC Resistance: 0.25Ω; RoHS: Yes; ComponentLink1Description: Datasheet; ComponentLink1URL: https://wmsc.lcsc.com/wmsc/upload/file/pdf/v2/lcsc/2304140030_Chilisin-Elec-SBY100505T-121Y-N_C142034.pdf; ComponentLink2Description: JLCPCB Part URL; ComponentLink2URL: https://jlcpcb.com/partdetail/C142034; ComponentLink3Description: LCSC Part URL; ComponentLink3URL: https://lcsc.com/product-detail/Ferrite-Beads_Chilisin-Elec-Chilisin-Elec-SBY100505T-121Y-N_C142034.html
footprint FB-0402 (0402 (1005M) Ferrite)
pins: 1, 2

## SBY100505T-152Y-N
designator FB?  Impedance @ Frequency: 1.5kΩ@100MHz
Ferrite, 1.5kΩ@100MHz, ±25%, SMD 0402; Manufacturer: Chilisin Elec; Manufacturer Part Number: SBY100505T-152Y-N; Package Size: 0402; JLCPCB Basic Part: No; JLCPCB Part Number: C142033; Supplier 1: LCSC; Category: Ferrite Beads; Supplier Part Number 1: C142033; Tolerance: ±25%; RoHS: Yes; ComponentLink1Description: Datasheet; ComponentLink1URL: https://wmsc.lcsc.com/wmsc/upload/file/pdf/v2/lcsc/2304140030_Chilisin-Elec-SBY100505T-152Y-N_C142033.pdf; ComponentLink2Description: JLCPCB Part URL; ComponentLink2URL: https://jlcpcb.com/partdetail/C142033; ComponentLink3Description: LCSC Part URL; ComponentLink3URL: https://lcsc.com/product-detail/Ferrite-Beads_Chilisin-Elec-Chilisin-Elec-SBY100505T-152Y-N_C142033.html
pins: 1, 2

## SBY100505T-221Y-N
designator FB?  Impedance @ Frequency: 220Ω@100MHz
Ferrite, 220Ω@100MHz, ±25%, 0.29Ω, 450mA, SMD 0402; Manufacturer: Chilisin Elec; Manufacturer Part Number: SBY100505T-221Y-N; Package Size: 0402; JLCPCB Basic Part: No; JLCPCB Part Number: C108307; Supplier 1: LCSC; Category: Ferrite Beads; Supplier Part Number 1: C108307; Tolerance: ±25%; Rated Current: 450mA; DC Resistance: 0.29Ω; RoHS: Yes; ComponentLink1Description: Datasheet; ComponentLink1URL: https://wmsc.lcsc.com/wmsc/upload/file/pdf/v2/lcsc/2304140030_Chilisin-Elec-SBY100505T-221Y-N_C108307.pdf; ComponentLink2Description: JLCPCB Part URL; ComponentLink2URL: https://jlcpcb.com/partdetail/C108307; ComponentLink3Description: LCSC Part URL; ComponentLink3URL: https://lcsc.com/product-detail/Ferrite-Beads_Chilisin-Elec-Chilisin-Elec-SBY100505T-221Y-N_C108307.html
footprint FB-0402 (0402 (1005M) Ferrite)
pins: 1, 2

## SBY100505T-241Y-N
designator FB?  Impedance @ Frequency: 240Ω@100MHz
Ferrite, 240Ω@100MHz, ±25%, 0.4Ω, 400mA, SMD 0402; Manufacturer: Chilisin Elec; Manufacturer Part Number: SBY100505T-241Y-N; Package Size: 0402; JLCPCB Basic Part: No; JLCPCB Part Number: C329646; Supplier 1: LCSC; Category: Ferrite Beads; Supplier Part Number 1: C329646; Tolerance: ±25%; Rated Current: 400mA; DC Resistance: 0.4Ω; RoHS: Yes; ComponentLink1Description: Datasheet; ComponentLink1URL: https://wmsc.lcsc.com/wmsc/upload/file/pdf/v2/lcsc/1912111437_Chilisin-Elec-SBY100505T-241Y-N_C329646.pdf; ComponentLink2Description: JLCPCB Part URL; ComponentLink2URL: https://jlcpcb.com/partdetail/C329646; ComponentLink3Description: LCSC Part URL; ComponentLink3URL: https://lcsc.com/product-detail/Ferrite-Beads_Chilisin-Elec-Chilisin-Elec-SBY100505T-241Y-N_C329646.html
footprint FB-0402 (0402 (1005M) Ferrite)
pins: 1, 2

## SBY100505T-301Y-N
designator FB?  Impedance @ Frequency: 300Ω@100MHz
Ferrite, 300Ω@100MHz, ±25%, 0.5Ω, 300mA, SMD 0402; Manufacturer: Chilisin Elec; Manufacturer Part Number: SBY100505T-301Y-N; Package Size: 0402; JLCPCB Basic Part: No; JLCPCB Part Number: C108308; Supplier 1: LCSC; Category: Ferrite Beads; Supplier Part Number 1: C108308; Tolerance: ±25%; Rated Current: 300mA; DC Resistance: 0.5Ω; RoHS: Yes; ComponentLink1Description: Datasheet; ComponentLink1URL: https://wmsc.lcsc.com/wmsc/upload/file/pdf/v2/lcsc/2304140030_Chilisin-Elec-SBY100505T-301Y-N_C108308.pdf; ComponentLink2Description: JLCPCB Part URL; ComponentLink2URL: https://jlcpcb.com/partdetail/C108308; ComponentLink3Description: LCSC Part URL; ComponentLink3URL: https://lcsc.com/product-detail/Ferrite-Beads_Chilisin-Elec-Chilisin-Elec-SBY100505T-301Y-N_C108308.html
footprint FB-0402 (0402 (1005M) Ferrite)
pins: 1, 2

## SBY100505T-400Y-N
designator FB?  Impedance @ Frequency: 40Ω@100MHz
Ferrite, 40Ω@100MHz, ±25%, 0.2Ω, 500mA, SMD 0402; Manufacturer: Chilisin Elec; Manufacturer Part Number: SBY100505T-400Y-N; Package Size: 0402; JLCPCB Basic Part: No; JLCPCB Part Number: C285643; Supplier 1: LCSC; Category: Ferrite Beads; Supplier Part Number 1: C285643; Tolerance: ±25%; Rated Current: 500mA; DC Resistance: 0.2Ω; RoHS: Yes; ComponentLink1Description: Datasheet; ComponentLink1URL: https://wmsc.lcsc.com/wmsc/upload/file/pdf/v2/lcsc/2304140030_Chilisin-Elec-SBY100505T-400Y-N_C285643.pdf; ComponentLink2Description: JLCPCB Part URL; ComponentLink2URL: https://jlcpcb.com/partdetail/C285643; ComponentLink3Description: LCSC Part URL; ComponentLink3URL: https://lcsc.com/product-detail/Ferrite-Beads_Chilisin-Elec-Chilisin-Elec-SBY100505T-400Y-N_C285643.html
footprint FB-0402 (0402 (1005M) Ferrite)
pins: 1, 2

## SBY100505T-601Y-N
designator FB?  Impedance @ Frequency: 600Ω@100MHz
Ferrite, 600Ω@100MHz, ±25%, 0.52Ω, 300mA, SMD 0402; Manufacturer: Chilisin Elec; Manufacturer Part Number: SBY100505T-601Y-N; Package Size: 0402; JLCPCB Basic Part: No; JLCPCB Part Number: C142031; Supplier 1: LCSC; Category: Ferrite Beads; Supplier Part Number 1: C142031; Tolerance: ±25%; Rated Current: 300mA; DC Resistance: 0.52Ω; RoHS: Yes; ComponentLink1Description: Datasheet; ComponentLink1URL: https://wmsc.lcsc.com/wmsc/upload/file/pdf/v2/lcsc/2304140030_Chilisin-Elec-SBY100505T-601Y-N_C142031.pdf; ComponentLink2Description: JLCPCB Part URL; ComponentLink2URL: https://jlcpcb.com/partdetail/C142031; ComponentLink3Description: LCSC Part URL; ComponentLink3URL: https://lcsc.com/product-detail/Ferrite-Beads_Chilisin-Elec-Chilisin-Elec-SBY100505T-601Y-N_C142031.html
footprint FB-0402 (0402 (1005M) Ferrite)
pins: 1, 2

## SBY100505T-800Y-N
designator FB?  Impedance @ Frequency: 80Ω@100MHz
Ferrite, 80Ω@100MHz, ±25%, 0.2Ω, 500mA, SMD 0402; Manufacturer: Chilisin Elec; Manufacturer Part Number: SBY100505T-800Y-N; Package Size: 0402; JLCPCB Basic Part: No; JLCPCB Part Number: C2913982; Supplier 1: LCSC; Category: Ferrite Beads; Supplier Part Number 1: C2913982; Tolerance: ±25%; Rated Current: 500mA; DC Resistance: 0.2Ω; RoHS: Yes; ComponentLink1Description: Datasheet; ComponentLink1URL: https://wmsc.lcsc.com/wmsc/upload/file/pdf/v2/lcsc/2111051730_Chilisin-Elec-SBY100505T-800Y-N_C2913982.pdf; ComponentLink2Description: JLCPCB Part URL; ComponentLink2URL: https://jlcpcb.com/partdetail/C2913982; ComponentLink3Description: LCSC Part URL; ComponentLink3URL: https://lcsc.com/product-detail/Ferrite-Beads_Chilisin-Elec-Chilisin-Elec-SBY100505T-800Y-N_C2913982.html
footprint FB-0402 (0402 (1005M) Ferrite)
pins: 1, 2

## SCBG100505U000T
designator FB?  Impedance @ Frequency: 0Ω@100MHz
Ferrite, 0Ω@100MHz, 100mΩ, 300mA, SMD 0402; Manufacturer: Yanchuang; Manufacturer Part Number: SCBG100505U000T; Package Size: 0402; JLCPCB Basic Part: No; JLCPCB Part Number: C480820; Supplier 1: LCSC; Category: Ferrite Beads; Supplier Part Number 1: C480820; Rated Current: 300mA; DC Resistance: 100mΩ; RoHS: Yes; ComponentLink1Description: Datasheet; ComponentLink1URL: https://wmsc.lcsc.com/wmsc/upload/file/pdf/v2/lcsc/2304140030_Yanchuang-SCBG100505U000T_C480820.pdf; ComponentLink2Description: JLCPCB Part URL; ComponentLink2URL: https://jlcpcb.com/partdetail/C480820; ComponentLink3Description: LCSC Part URL; ComponentLink3URL: https://lcsc.com/product-detail/Ferrite-Beads_Yanchuang-Yanchuang-SCBG100505U000T_C480820.html
pins: 1, 2

## SCBG100505U090T
designator FB?  Impedance @ Frequency: 9Ω@100MHz
Ferrite, 9Ω@100MHz, 100mΩ, 300mA, SMD 0402; Manufacturer: Yanchuang; Manufacturer Part Number: SCBG100505U090T; Package Size: 0402; JLCPCB Basic Part: No; JLCPCB Part Number: C480823; Supplier 1: LCSC; Category: Ferrite Beads; Supplier Part Number 1: C480823; Rated Current: 300mA; DC Resistance: 100mΩ; RoHS: Yes; ComponentLink1Description: Datasheet; ComponentLink1URL: https://wmsc.lcsc.com/wmsc/upload/file/pdf/v2/lcsc/2304140030_Yanchuang-SCBG100505U090T_C480823.pdf; ComponentLink2Description: JLCPCB Part URL; ComponentLink2URL: https://jlcpcb.com/partdetail/C480823; ComponentLink3Description: LCSC Part URL; ComponentLink3URL: https://lcsc.com/product-detail/Ferrite-Beads_Yanchuang-Yanchuang-SCBG100505U090T_C480823.html
pins: 1, 2

## SCBG100505U110T
designator FB?  Impedance @ Frequency: 11Ω@100MHz
Ferrite, 11Ω@100MHz, 100mΩ, 300mA, SMD 0402; Manufacturer: Yanchuang; Manufacturer Part Number: SCBG100505U110T; Package Size: 0402; JLCPCB Basic Part: No; JLCPCB Part Number: C480824; Supplier 1: LCSC; Category: Ferrite Beads; Supplier Part Number 1: C480824; Rated Current: 300mA; DC Resistance: 100mΩ; RoHS: Yes; ComponentLink1Description: Datasheet; ComponentLink1URL: https://wmsc.lcsc.com/wmsc/upload/file/pdf/v2/lcsc/2304140030_Yanchuang-SCBG100505U110T_C480824.pdf; ComponentLink2Description: JLCPCB Part URL; ComponentLink2URL: https://jlcpcb.com/partdetail/C480824; ComponentLink3Description: LCSC Part URL; ComponentLink3URL: https://lcsc.com/product-detail/Ferrite-Beads_Yanchuang-Yanchuang-SCBG100505U110T_C480824.html
pins: 1, 2

## SCBG100505U190T
designator FB?  Impedance @ Frequency: 19Ω@100MHz
Ferrite, 19Ω@100MHz, 100mΩ, 300mA, SMD 0402; Manufacturer: Yanchuang; Manufacturer Part Number: SCBG100505U190T; Package Size: 0402; JLCPCB Basic Part: No; JLCPCB Part Number: C480826; Supplier 1: LCSC; Category: Ferrite Beads; Supplier Part Number 1: C480826; Rated Current: 300mA; DC Resistance: 100mΩ; RoHS: Yes; ComponentLink1Description: Datasheet; ComponentLink1URL: https://wmsc.lcsc.com/wmsc/upload/file/pdf/v2/lcsc/2304140030_Yanchuang-SCBG100505U190T_C480826.pdf; ComponentLink2Description: JLCPCB Part URL; ComponentLink2URL: https://jlcpcb.com/partdetail/C480826; ComponentLink3Description: LCSC Part URL; ComponentLink3URL: https://lcsc.com/product-detail/Ferrite-Beads_Yanchuang-Yanchuang-SCBG100505U190T_C480826.html
pins: 1, 2

## SCBG100505U221T
designator FB?  Impedance @ Frequency: 220Ω@100MHz
Ferrite, 220Ω@100MHz, ±25%, 700mΩ, 100mA, SMD 0402; Manufacturer: Yanchuang; Manufacturer Part Number: SCBG100505U221T; Package Size: 0402; JLCPCB Basic Part: No; JLCPCB Part Number: C480835; Supplier 1: LCSC; Category: Ferrite Beads; Supplier Part Number 1: C480835; Tolerance: ±25%; Rated Current: 100mA; DC Resistance: 700mΩ; RoHS: Yes; ComponentLink1Description: Datasheet; ComponentLink1URL: https://wmsc.lcsc.com/wmsc/upload/file/pdf/v2/lcsc/2304140030_Yanchuang-SCBG100505U221T_C480835.pdf; ComponentLink2Description: JLCPCB Part URL; ComponentLink2URL: https://jlcpcb.com/partdetail/C480835; ComponentLink3Description: LCSC Part URL; ComponentLink3URL: https://lcsc.com/product-detail/Ferrite-Beads_Yanchuang-Yanchuang-SCBG100505U221T_C480835.html
footprint FB-0402 (0402 (1005M) Ferrite)
pins: 1, 2

## SCBG100505U310T
designator FB?  Impedance @ Frequency: 31Ω@100MHz
Ferrite, 31Ω@100MHz, ±25%, 200mΩ, 300mA, SMD 0402; Manufacturer: Yanchuang; Manufacturer Part Number: SCBG100505U310T; Package Size: 0402; JLCPCB Basic Part: No; JLCPCB Part Number: C480828; Supplier 1: LCSC; Category: Ferrite Beads; Supplier Part Number 1: C480828; Tolerance: ±25%; Rated Current: 300mA; DC Resistance: 200mΩ; RoHS: Yes; ComponentLink1Description: Datasheet; ComponentLink1URL: https://wmsc.lcsc.com/wmsc/upload/file/pdf/v2/lcsc/2304140030_Yanchuang-SCBG100505U310T_C480828.pdf; ComponentLink2Description: JLCPCB Part URL; ComponentLink2URL: https://jlcpcb.com/partdetail/C480828; ComponentLink3Description: LCSC Part URL; ComponentLink3URL: https://lcsc.com/product-detail/Ferrite-Beads_Yanchuang-Yanchuang-SCBG100505U310T_C480828.html
footprint FB-0402 (0402 (1005M) Ferrite)
pins: 1, 2

## SCBG100505U360T
designator FB?  Impedance @ Frequency: 36Ω@100MHz
Ferrite, 36Ω@100MHz, ±25%, 200mΩ, 300mA, SMD 0402; Manufacturer: Yanchuang; Manufacturer Part Number: SCBG100505U360T; Package Size: 0402; JLCPCB Basic Part: No; JLCPCB Part Number: C480829; Supplier 1: LCSC; Category: Ferrite Beads; Supplier Part Number 1: C480829; Tolerance: ±25%; Rated Current: 300mA; DC Resistance: 200mΩ; RoHS: Yes; ComponentLink1Description: Datasheet; ComponentLink1URL: https://wmsc.lcsc.com/wmsc/upload/file/pdf/v2/lcsc/2304140030_Yanchuang-SCBG100505U360T_C480829.pdf; ComponentLink2Description: JLCPCB Part URL; ComponentLink2URL: https://jlcpcb.com/partdetail/C480829; ComponentLink3Description: LCSC Part URL; ComponentLink3URL: https://lcsc.com/product-detail/Ferrite-Beads_Yanchuang-Yanchuang-SCBG100505U360T_C480829.html
footprint FB-0402 (0402 (1005M) Ferrite)
pins: 1, 2

## SCBG100505U801T
designator FB?  Impedance @ Frequency: 800Ω@100MHz
Ferrite, 800Ω@100MHz, ±25%, 1.4Ω, 50mA, SMD 0402; Manufacturer: Yanchuang; Manufacturer Part Number: SCBG100505U801T; Package Size: 0402; JLCPCB Basic Part: No; JLCPCB Part Number: C480839; Supplier 1: LCSC; Category: Ferrite Beads; Supplier Part Number 1: C480839; Tolerance: ±25%; Rated Current: 50mA; DC Resistance: 1.4Ω; RoHS: Yes; ComponentLink1Description: Datasheet; ComponentLink1URL: https://wmsc.lcsc.com/wmsc/upload/file/pdf/v2/lcsc/2304140030_Yanchuang-SCBG100505U801T_C480839.pdf; ComponentLink2Description: JLCPCB Part URL; ComponentLink2URL: https://jlcpcb.com/partdetail/C480839; ComponentLink3Description: LCSC Part URL; ComponentLink3URL: https://lcsc.com/product-detail/Ferrite-Beads_Yanchuang-Yanchuang-SCBG100505U801T_C480839.html
footprint FB-0402 (0402 (1005M) Ferrite)
pins: 1, 2

## SZ1005F330TF
designator FB?  Impedance @ Frequency: 33Ω@100MHz
Ferrite, 33Ω@100MHz, ±25%, 400mΩ, 300mA, SMD 0402; Manufacturer: Sunlord; Manufacturer Part Number: SZ1005F330TF; Package Size: 0402; JLCPCB Basic Part: No; JLCPCB Part Number: C96979; Supplier 1: LCSC; Category: Ferrite Beads; Supplier Part Number 1: C96979; Tolerance: ±25%; Rated Current: 300mA; DC Resistance: 400mΩ; RoHS: Yes; ComponentLink1Description: Datasheet; ComponentLink1URL: https://wmsc.lcsc.com/wmsc/upload/file/pdf/v2/lcsc/2310301641_Sunlord-SZ1005F330TF_C96979.pdf; ComponentLink2Description: JLCPCB Part URL; ComponentLink2URL: https://jlcpcb.com/partdetail/C96979; ComponentLink3Description: LCSC Part URL; ComponentLink3URL: https://lcsc.com/product-detail/Ferrite-Beads_Sunlord-Sunlord-SZ1005F330TF_C96979.html
footprint FB-0402 (0402 (1005M) Ferrite)
pins: 1, 2

## SZ1005F470TF
designator FB?  Impedance @ Frequency: 47Ω@100MHz
Ferrite, 47Ω@100MHz, ±25%, 600mΩ, 200mA, SMD 0402; Manufacturer: Sunlord; Manufacturer Part Number: SZ1005F470TF; Package Size: 0402; JLCPCB Basic Part: No; JLCPCB Part Number: C92628; Supplier 1: LCSC; Category: Ferrite Beads; Supplier Part Number 1: C92628; Tolerance: ±25%; Rated Current: 200mA; DC Resistance: 600mΩ; RoHS: Yes; ComponentLink1Description: Datasheet; ComponentLink1URL: https://wmsc.lcsc.com/wmsc/upload/file/pdf/v2/lcsc/2310301641_Sunlord-SZ1005F470TF_C92628.pdf; ComponentLink2Description: JLCPCB Part URL; ComponentLink2URL: https://jlcpcb.com/partdetail/C92628; ComponentLink3Description: LCSC Part URL; ComponentLink3URL: https://lcsc.com/product-detail/Ferrite-Beads_Sunlord-Sunlord-SZ1005F470TF_C92628.html
footprint FB-0402 (0402 (1005M) Ferrite)
pins: 1, 2

## SZ1005G121TF
designator FB?  Impedance @ Frequency: 120Ω@100MHz
Ferrite, 120Ω@100MHz, ±25%, 400mΩ, 400mA, SMD 0402; Manufacturer: Sunlord; Manufacturer Part Number: SZ1005G121TF; Package Size: 0402; JLCPCB Basic Part: No; JLCPCB Part Number: C96980; Supplier 1: LCSC; Category: Ferrite Beads; Supplier Part Number 1: C96980; Tolerance: ±25%; Rated Current: 400mA; DC Resistance: 400mΩ; RoHS: Yes; ComponentLink1Description: Datasheet; ComponentLink1URL: https://wmsc.lcsc.com/wmsc/upload/file/pdf/v2/lcsc/2310301641_Sunlord-SZ1005G121TF_C96980.pdf; ComponentLink2Description: JLCPCB Part URL; ComponentLink2URL: https://jlcpcb.com/partdetail/C96980; ComponentLink3Description: LCSC Part URL; ComponentLink3URL: https://lcsc.com/product-detail/Ferrite-Beads_Sunlord-Sunlord-SZ1005G121TF_C96980.html
footprint FB-0402 (0402 (1005M) Ferrite)
pins: 1, 2

## SZ1005G221TF
designator FB?  Impedance @ Frequency: 220Ω@100MHz
Ferrite, 220Ω@100MHz, ±25%, 700mΩ, 200mA, SMD 0402; Manufacturer: Sunlord; Manufacturer Part Number: SZ1005G221TF; Package Size: 0402; JLCPCB Basic Part: No; JLCPCB Part Number: C96981; Supplier 1: LCSC; Category: Ferrite Beads; Supplier Part Number 1: C96981; Tolerance: ±25%; Rated Current: 200mA; DC Resistance: 700mΩ; RoHS: Yes; ComponentLink1Description: Datasheet; ComponentLink1URL: https://wmsc.lcsc.com/wmsc/upload/file/pdf/v2/lcsc/2310301641_Sunlord-SZ1005G221TF_C96981.pdf; ComponentLink2Description: JLCPCB Part URL; ComponentLink2URL: https://jlcpcb.com/partdetail/C96981; ComponentLink3Description: LCSC Part URL; ComponentLink3URL: https://lcsc.com/product-detail/Ferrite-Beads_Sunlord-Sunlord-SZ1005G221TF_C96981.html
footprint FB-0402 (0402 (1005M) Ferrite)
pins: 1, 2

## SZ1005G470TF
designator FB?  Impedance @ Frequency: 47Ω@100MHz
Ferrite, 47Ω@100MHz, ±25%, SMD 0402; Manufacturer: Sunlord; Manufacturer Part Number: SZ1005G470TF; Package Size: 0402; JLCPCB Basic Part: No; JLCPCB Part Number: C370546; Supplier 1: LCSC; Category: Ferrite Beads; Supplier Part Number 1: C370546; Tolerance: ±25%; RoHS: Yes; ComponentLink1Description: Datasheet; ComponentLink1URL: https://wmsc.lcsc.com/wmsc/upload/file/pdf/v2/lcsc/2310301641_Sunlord-SZ1005G470TF_C370546.pdf; ComponentLink2Description: JLCPCB Part URL; ComponentLink2URL: https://jlcpcb.com/partdetail/C370546; ComponentLink3Description: LCSC Part URL; ComponentLink3URL: https://lcsc.com/product-detail/Ferrite-Beads_Sunlord-Sunlord-SZ1005G470TF_C370546.html
pins: 1, 2

## SZ1005G750TF
designator FB?  Impedance @ Frequency: 75Ω@100MHz
Ferrite, 75Ω@100MHz, ±25%, 300mΩ, 600mA, SMD 0402; Manufacturer: Sunlord; Manufacturer Part Number: SZ1005G750TF; Package Size: 0402; JLCPCB Basic Part: No; JLCPCB Part Number: C98274; Supplier 1: LCSC; Category: Ferrite Beads; Supplier Part Number 1: C98274; Tolerance: ±25%; Rated Current: 600mA; DC Resistance: 300mΩ; RoHS: Yes; ComponentLink1Description: Datasheet; ComponentLink1URL: https://wmsc.lcsc.com/wmsc/upload/file/pdf/v2/lcsc/2310301641_Sunlord-SZ1005G750TF_C98274.pdf; ComponentLink2Description: JLCPCB Part URL; ComponentLink2URL: https://jlcpcb.com/partdetail/C98274; ComponentLink3Description: LCSC Part URL; ComponentLink3URL: https://lcsc.com/product-detail/Ferrite-Beads_Sunlord-Sunlord-SZ1005G750TF_C98274.html
footprint FB-0402 (0402 (1005M) Ferrite)
pins: 1, 2